# Altium schematic symbol library SCH - RF - MIXER - AD ADL5801.SchLib: 1 symbol
Pins are listed as number, name and electrical type; pins without a type are passive.

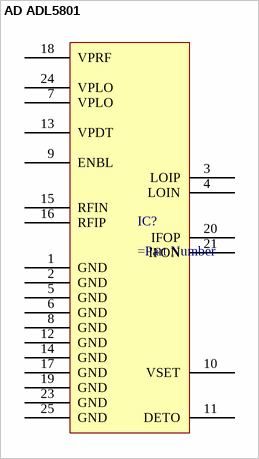
[diagram p0: symbol AD ADL5801]

## AD ADL5801
designator IC?
pins: 1 GND, 2 GND, 3 LOIP, 4 LOIN, 5 GND, 6 GND, 7 VPLO, 8 GND, 9 ENBL, 10 VSET, 11 DETO, 12 GND, 13 VPDT, 14 GND, 15 RFIN, 16 RFIP, 17 GND, 18 VPRF, 19 GND, 20 IFOP, 21 IFON, 23 GND, 24 VPLO, 25 GND